# Altium schematic symbol library Molex.SchLib: 1 symbol
Pins are listed as number, name and electrical type; pins without a type are passive.

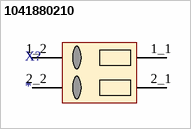
[diagram p0: symbol 1041880210]

## 1041880210
designator X?
SSL Connector 2 Position Receptacle, Poke-In Wire Board to Cable/Wire 0.157 _4.00mm_ Solder; MF: Molex; MP: 1041880210; Package: None; Value: *; Price: None; SnapEDA_Link: https://www.snapeda.com/parts/1041880210/Molex/view-part/3209085/?ref=snap; Availability: Unavailable
pins: 1_1 1, 1_2 1, 2_1 2, 2_2 2